# EAGLE library part WAVESHARE-IMU-10DOF (library 2021-07-02 OrangeHat Library)
WaveShare IMU 10DOF Dimensions: 31x16mm Pins: 6x2.54mm Link: https://www.waveshare.com/10-dof-imu-sensor-b.html
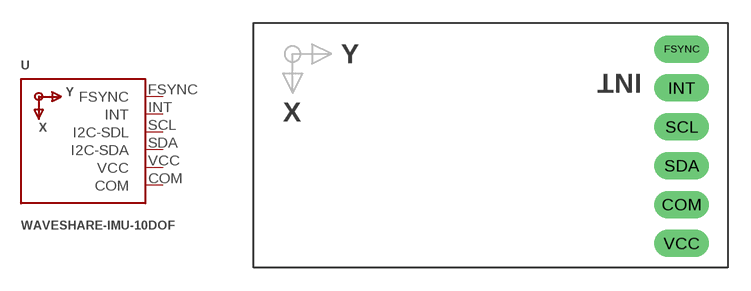
[diagram p4: symbol with the pads of WAVESHARE-IMU-10DOF; footprint WAVESHARE-IMU-10DOF]

Designator prefix -

## WAVESHARE-IMU-10DOF  [WAVESHARE-IMU-10DOF]
COM  COM  pwr
FSYNC  FSYNC
INT  INT
SCL  I2C-SDL
SDA  I2C-SDA
VCC  VCC  pwr

## Footprint WAVESHARE-IMU-10DOF (pad centres in mm)
WaveShare IMU 10DOF Dimensions: 31x16mm Pins: 6x2.54mm Link: https://www.waveshare.com/10-dof-imu-sensor-b.html
drill 1.2 long: COM 28,4.128; FSYNC 28,14.287; INT 28,11.748; SCL 28,9.207; SDA 28,6.668; VCC 28,1.587